# EAGLE library part DUALTOGGLE (library ABI)
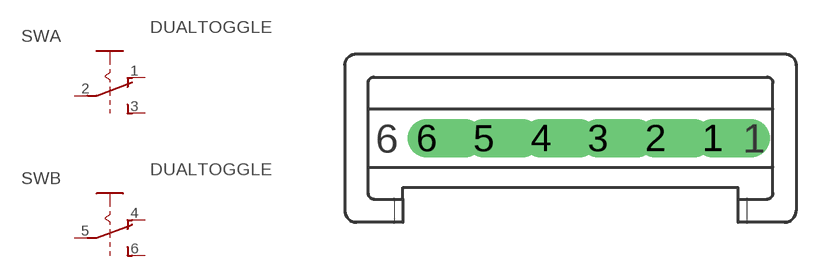
[diagram p2: symbol with the pads of SW-1X5; footprint SW-1X5]

Designator prefix SW; gates A=TOGGLE-HEADER B=TOGGLE-HEADER

## DUALTOGGLE  [SW-1X5]
1  A:1  pas
2  A:2  pas
3  A:3  pas
4  B:1  pas
5  B:2  pas
6  B:3  pas

## Footprint SW-1X5 (pad centres in mm)
drill 0.813 pad 1.676 offset: 1 6.25,0; 2 3.75,0; 3 1.25,0; 4 -1.25,0; 5 -3.75,0; 6 -6.25,0